# EAGLE library part 691701530008B (library Wurth_Terminal_Blocks_Connectors_rev15d)
WR-TBL Serie 7015 – 5.08mm Open Horizontal PCB Header, 8 Pins=>Code : Con_TBL_Pluggable_5.08_PCB_THR_691701530008B <http://katalog.we-online.de/media/images/eican/Con_TBL_Pluggable_5.08_PCB_THR_6917015300xxB_pf2.jpg> Details see: http://katalog.we-online.de/en/em/691_701_530_0xxB Created 2014-06-25, Karrer Zheng 2014 (C) Würth Elektronik
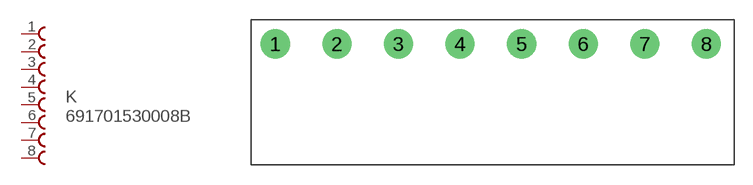
[diagram p376: symbol with the pads of 691701530008B; footprint 691701530008B]

Designator prefix K

## 691701530008B  [691701530008B]
1  1  pas
2  2  pas
3  3  pas
4  4  pas
5  5  pas
6  6  pas
7  7  pas
8  8  pas

## Footprint 691701530008B (pad centres in mm)
WR-TBL Serie 7015 – 5.08mm Open Horizontal PCB Header, 8 Pins
drill 1.6: 1 0,0; 2 5.08,0; 3 10.16,0; 4 15.24,0; 5 20.32,0; 6 25.4,0; 7 30.48,0; 8 35.56,0